# Altium footprint library TPI_time_timer.PcbLib: 36 footprints (part 3 of 3)
Each footprint in its own frame and in the unit in brackets; x right, y up, seen from the top. Pads: shape width x height; smd on the part's side, far side on the other; paste and mask are expansions set on the pad; w line width, h text height; cw(c..) or ccw(c..) is an arc to the next point about the centre after c.
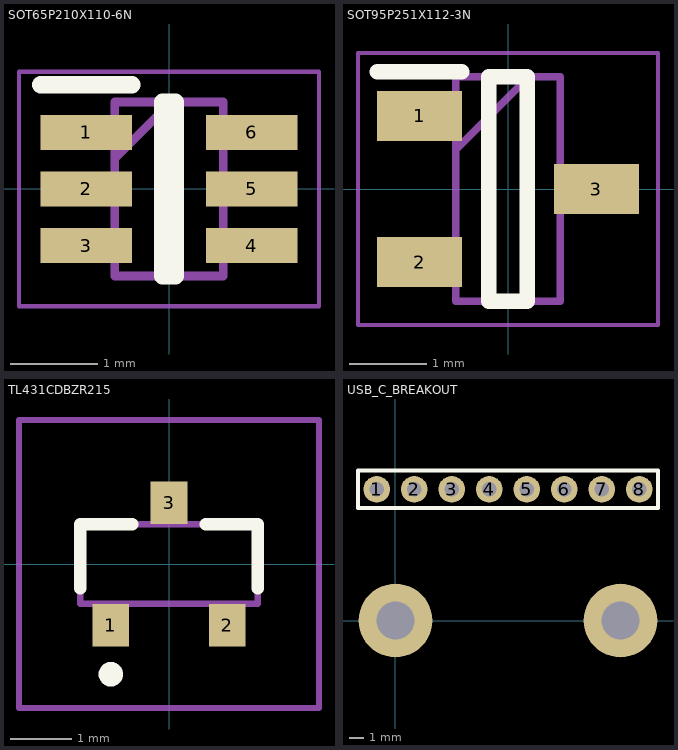
[diagram p2: the footprints below, top view; thin cyan lines are the x and y axes]

## SOT65P210X110-6N [mm]
pads (6):
  rect 1.05x0.4 smd: 1(-0.95,0.65) 2(-0.95,0) 3(-0.95,-0.65) 4(0.95,-0.65) 5(0.95,0) 6(0.95,0.65)
Top Overlay:
  lines w0.2: -1.475,1.2 -0.425,1.2 ; -0.075,-1 0.075,-1 0.075,1 -0.075,1 -0.075,-1
Mechanical 13:
  lines w0.1: -0.625,0.35 0.025,1 ; -0.625,-1 0.625,-1 0.625,1 -0.625,1 -0.625,-1
Mechanical 15:
  lines w0.05: -1.725,-1.35 1.725,-1.35 1.725,1.35 -1.725,1.35 -1.725,-1.35
3D body "MBT3904DW1T1G.stp": height 1.1, standoff 0, extent -1.05,-1 1.05,1

## SOT95P251X112-3N [mm]
pads (3):
  rect 1.1x0.65 smd: 1(-1.15,0.95) 2(-1.15,-0.95) 3(1.15,0)
Top Overlay:
  lines w0.2: -1.7,1.525 -0.6,1.525 ; -0.25,-1.46 0.25,-1.46 0.25,1.46 -0.25,1.46 -0.25,-1.46
Mechanical 13:
  lines w0.1: -0.68,0.51 0.27,1.46 ; -0.68,-1.46 0.68,-1.46 0.68,1.46 -0.68,1.46 -0.68,-1.46
Mechanical 15:
  lines w0.05: -1.95,-1.77 1.95,-1.77 1.95,1.77 -1.95,1.77 -1.95,-1.77
3D body "FDN360P.stp": height 1.12, standoff 0, extent -1.255,-1.46 1.255,1.46

## TL431CDBZR215 [mm]
pads (3):
  rect 0.6x0.7 smd: 1(-0.95,-1) 2(0.95,-1) 3(0,1)
Top Overlay:
  lines w0.2: -1.45,-0.4 -1.45,0.65 -0.6,0.65 ; 0.6,0.65 1.45,0.65 1.45,-0.4 ; -1.05,-1.8 cw(c-0.95,-1.8) -0.85,-1.8 cw(c-0.95,-1.8) -1.05,-1.8
Mechanical 13:
  lines w0.1: -1.45,-0.65 -1.45,0.65 1.45,0.65 1.45,-0.65 -1.45,-0.65
Mechanical 15:
  lines w0.1: -2.45,-2.35 -2.45,2.35 2.45,2.35 2.45,-2.35 -2.45,-2.35
3D body "2N7002BK.stp": height 0.95, standoff 0, extent -1.452,-1.201 1.448,1.199

## USB_C_BREAKOUT [mm]
pads (10):
  round 1.8 hole 1: 1(-1.27,8.89) 2(1.27,8.89) 3(3.81,8.89) 4(6.35,8.89) 5(8.89,8.89) 6(11.43,8.89) 7(13.97,8.89) 8(16.51,8.89)
  round 5 hole 2.6: ""(0,0) ""(15.24,0)
Top Overlay:
  lines w0.254: -2.54,7.62 17.78,7.62 17.78,10.16 -2.54,10.16 -2.54,7.62